# Altium schematic symbol library ADP1714AUJZ-3.SCHLIB: 1 symbol
Pins are listed as number, name and electrical type; pins without a type are passive.

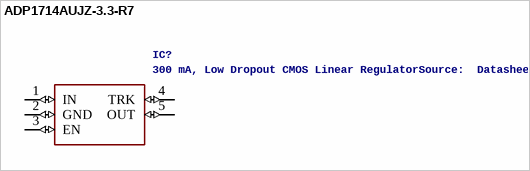
[diagram p0: symbol ADP1714AUJZ-3.3-R7]

## ADP1714AUJZ-3.3-R7
designator IC?, comment 300 mA, Low Dropout CMOS Linear RegulatorSource:  Datasheet
Manufacturer_Name: Analog Devices; GateName_1: G$1; SymbolName_1: ADP1714AUJZ-3.3-R7; LibraryName: ADP1714AUJZ-3.3-R7; DeviceSetName: ADP1714AUJZ-3.3-R7; Package: SOT95P280X100-5N; Manufacturer_Part_Number: ADP1714AUJZ-3.3-R7; Arrow_Part_Number: ADP1714AUJZ-3.3-R7; Description: 300 mA, Low Dropout CMOS Linear Regulator; Height: mm
footprint SOT95P280X100-5N
pins: 1 IN (io), 2 GND (io), 3 EN (io), 4 TRK (io), 5 OUT (io)